# Altium footprint library analog-devices.PCBLIB: 79 footprints (part 5 of 6)
Each footprint in its own frame and in the unit in brackets; x right, y up, seen from the top. Pads: shape width x height; smd on the part's side, far side on the other; paste and mask are expansions set on the pad; w line width, h text height; cw(c..) or ccw(c..) is an arc to the next point about the centre after c.
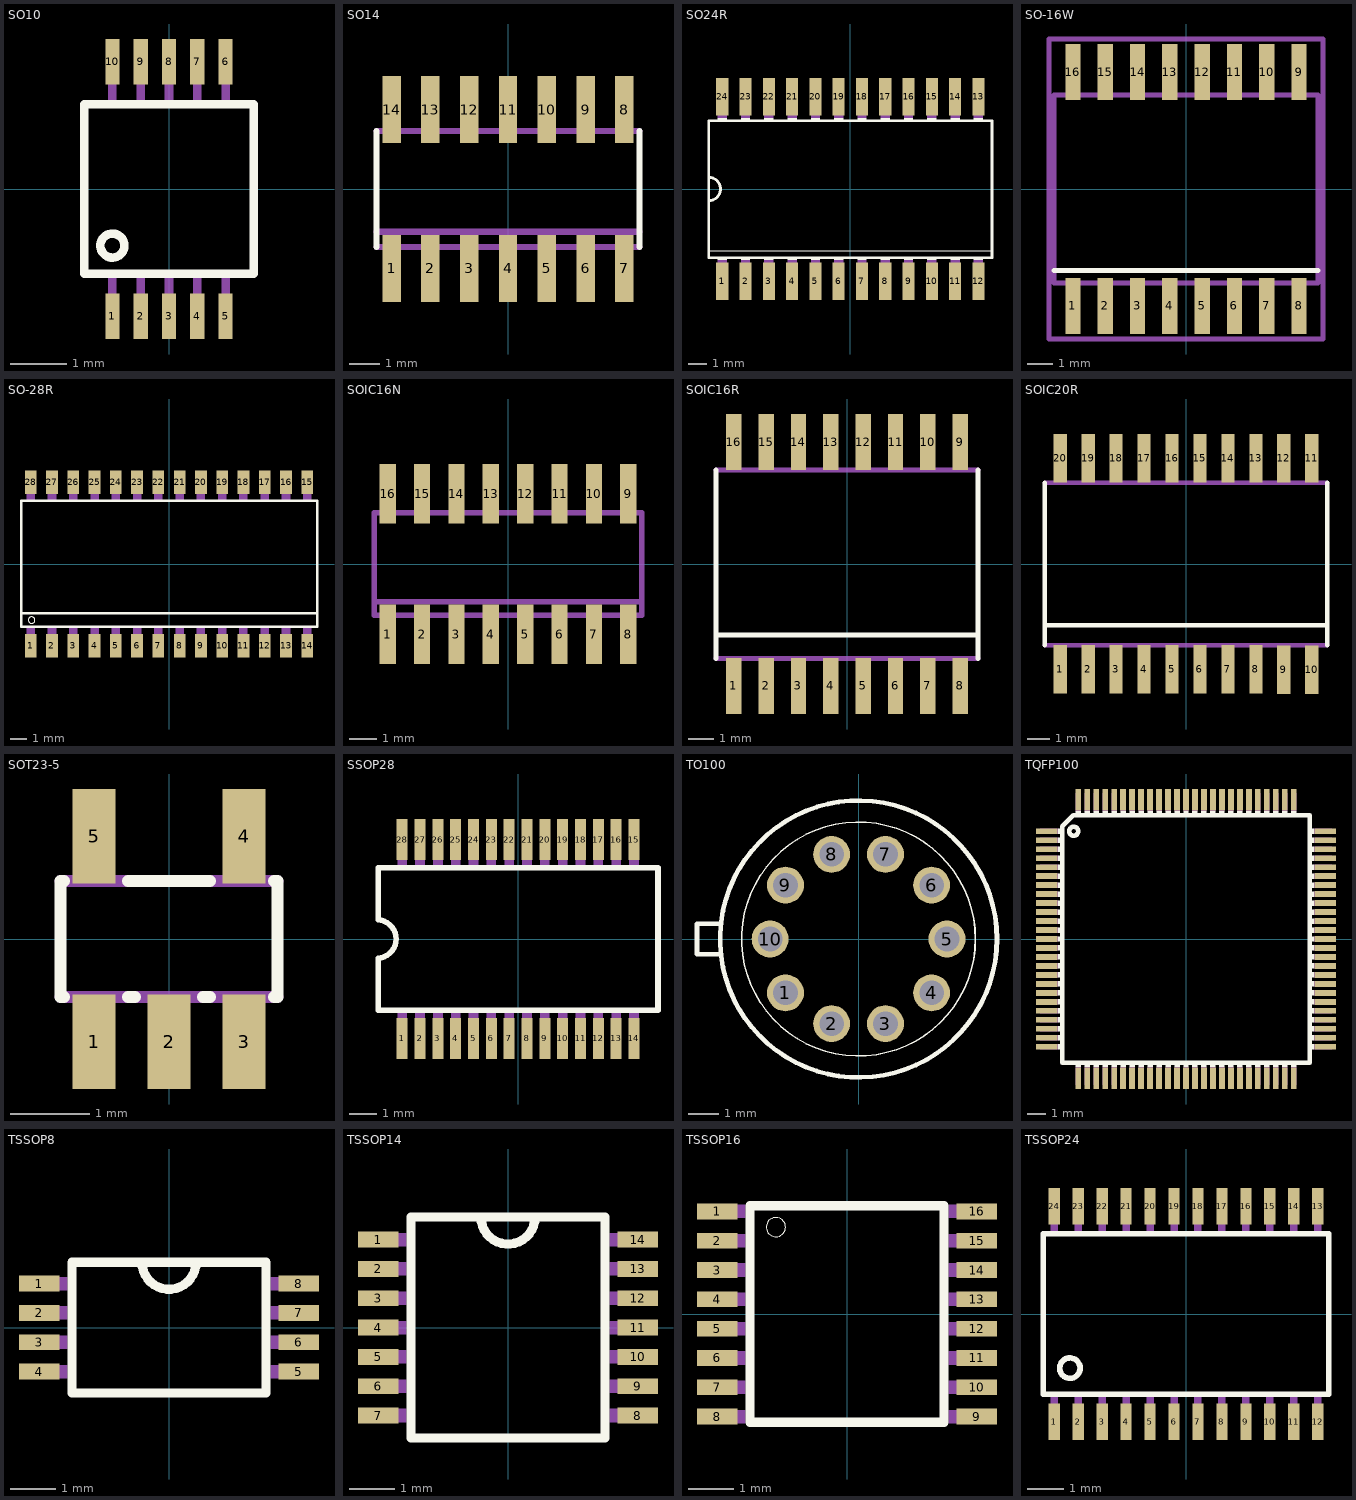
[diagram p4: the footprints below, top view; thin cyan lines are the x and y axes]

## SO10 [mil]
pads (10):
  rect 9.84x31.5 smd: 1(-39.37,-88.58) 2(-19.69,-88.58) 3(0,-88.58) 4(19.69,-88.58) 5(39.37,-88.58) 6(39.37,88.58) 7(19.69,88.58) 8(0,88.58) 9(-19.69,88.58) 10(-39.37,88.58)
Top Overlay:
  circle w6: c-39.37,-39.37 r8.35
  lines w6: -59.06,-59.06 59.06,-59.06 59.06,59.06 -59.06,59.06 -59.06,-59.06
Mechanical 16:
  rectangle: -42.37,-99 -36.37,-60
  rectangle: -22.69,-99 -16.69,-60
  rectangle: -3,-99 3,-60
  rectangle: 16.69,-99 22.69,-60
  rectangle: 36.37,-99 42.37,-60
  rectangle: 36.37,60 42.37,99
  rectangle: 16.69,60 22.69,99
  rectangle: -3,60 3,99
  rectangle: -22.69,60 -16.69,99
  rectangle: -42.37,60 -36.37,99

## SO14 [mm]
pads (14):
  rect 0.6x2.2 smd: 1(-3.81,-2.6) 2(-2.54,-2.6) 3(-1.27,-2.6) 4(0,-2.6) 5(1.27,-2.6) 6(2.54,-2.6) 7(3.81,-2.6) 8(3.81,2.6) 9(2.54,2.6) 10(1.27,2.6) 11(0,2.6) 12(-1.27,2.6) 13(-2.54,2.6) 14(-3.81,2.6)
Top Overlay:
  lines w0.203: -4.305,-1.9 -4.305,-1.4 -4.305,1.9 ; 4.305,-1.9 4.305,-1.4 4.305,1.9
Mechanical 16:
  rectangle: -4.055,-3.1 -3.565,-2
  rectangle: -2.785,-3.1 -2.295,-2
  rectangle: -1.515,-3.1 -1.025,-2
  rectangle: -0.245,-3.1 0.245,-2
  region: 1.515,-2 1.025,-2 1.025,-3.1 1.515,-3.1
  region: 2.785,-2 2.295,-2 2.295,-3.1 2.785,-3.1
  region: 4.055,-2 3.565,-2 3.565,-3.1 4.055,-3.1
  rectangle: 3.565,2 4.055,3.1
  rectangle: 2.295,2 2.785,3.1
  rectangle: 1.025,2 1.515,3.1
  rectangle: -0.245,2 0.245,3.1
  rectangle: -1.515,2 -1.025,3.1
  rectangle: -2.785,2 -2.295,3.1
  rectangle: -4.055,2 -3.565,3.1
  lines w0.203: -4.305,-1.9 4.305,-1.9 ; -4.305,-1.4 4.305,-1.4 ; -4.305,1.9 4.305,1.9

## SO24R [mil]
pads (24):
  rect 26x80 smd: 1(-275,-198) 2(-225,-198) 3(-175,-198) 4(-125,-198) 5(-75,-198) 6(-25,-198) 7(25,-198) 8(75,-198) 9(125,-198) 10(175,-198) 11(225,-198) 12(275,-198) 13(275,198) 14(225,198) 15(175,198) 16(125,198) 17(75,198) 18(25,198) 19(-25,198) 20(-75,198) 21(-125,198) 22(-175,198) 23(-225,198) 24(-275,198)
Top Overlay:
  rectangle: -285,-152 -265,-147
  rectangle: -235,-152 -215,-147
  rectangle: -185,-152 -165,-147
  rectangle: -135,-152 -115,-147
  rectangle: -85,-152 -65,-147
  rectangle: -35,-152 -15,-147
  rectangle: 15,-152 35,-147
  rectangle: 65,-152 85,-147
  rectangle: -285,147 -265,152
  rectangle: -235,147 -215,152
  rectangle: -185,147 -165,152
  rectangle: -135,147 -115,152
  rectangle: -85,147 -65,152
  rectangle: -35,147 -15,152
  rectangle: 15,147 35,152
  rectangle: 65,147 85,152
  rectangle: 115,147 135,152
  rectangle: 165,147 185,152
  rectangle: 215,147 235,152
  rectangle: 265,147 285,152
  rectangle: 115,-152 135,-147
  rectangle: 165,-152 185,-147
  rectangle: 215,-152 235,-147
  rectangle: 265,-152 285,-147
  lines w2: -305,-133 305,-133
  lines w6: -304.13,-25.2 -304.13,25.2 ; -304.13,-25.2 -304.13,-147.64 304.13,-147.64 304.13,146.65 -304.13,146.65 -304.13,25.2 ; -304.13,-25.2 ccw(c-304.13,0) -304.13,25.2
Mechanical 16:
  rectangle: -285,-210 -265,-152
  rectangle: -235,-210 -215,-152
  rectangle: -185,-210 -165,-152
  rectangle: -135,-210 -115,-152
  rectangle: -85,-210 -65,-152
  rectangle: -35,-210 -15,-152
  rectangle: 15,-210 35,-152
  rectangle: 65,-210 85,-152
  rectangle: -285,152 -265,210
  rectangle: -235,152 -215,210
  rectangle: -185,152 -165,210
  rectangle: -135,152 -115,210
  rectangle: -85,152 -65,210
  rectangle: -35,152 -15,210
  rectangle: 15,152 35,210
  rectangle: 65,152 85,210
  rectangle: 115,152 135,210
  rectangle: 165,152 185,210
  rectangle: 215,152 235,210
  rectangle: 265,152 285,210
  rectangle: 115,-210 135,-152
  rectangle: 165,-210 185,-152
  rectangle: 215,-210 235,-152
  rectangle: 265,-210 285,-152

## SO-16W [mm]
pads (16):
  rect 0.6x2.2 smd: 1(-4.445,-4.6) 2(-3.175,-4.6) 3(-1.905,-4.6) 4(-0.635,-4.6) 5(0.635,-4.6) 6(1.905,-4.6) 7(3.175,-4.6) 8(4.445,-4.6) 9(4.445,4.6) 10(3.175,4.6) 11(1.905,4.6) 12(0.635,4.6) 13(-0.635,4.6) 14(-1.905,4.6) 15(-3.175,4.6) 16(-4.445,4.6)
Top Overlay:
  lines w0.203: -5.19,-3.2 5.19,-3.2
Mechanical 16:
  rectangle: -4.69,-5.32 -4.2,-3.8
  rectangle: -3.42,-5.32 -2.93,-3.8
  rectangle: -2.15,-5.32 -1.66,-3.8
  rectangle: -0.88,-5.32 -0.39,-3.8
  rectangle: 0.39,-5.32 0.88,-3.8
  rectangle: 1.66,-5.32 2.15,-3.8
  rectangle: 2.93,-5.32 3.42,-3.8
  rectangle: 4.2,-5.32 4.69,-3.8
  rectangle: 4.2,3.8 4.69,5.32
  rectangle: 2.93,3.8 3.42,5.32
  rectangle: 1.66,3.8 2.15,5.32
  rectangle: 0.39,3.8 0.88,5.32
  rectangle: -0.88,3.8 -0.39,5.32
  rectangle: -2.15,3.8 -1.66,5.32
  rectangle: -3.42,3.8 -2.93,5.32
  rectangle: -4.69,3.8 -4.2,5.32
  lines w0.203: -5.19,-3.7 5.19,-3.7 5.19,3.7 -5.19,3.7 -5.19,-3.7
Mechanical 27:
  lines w0.2: -5.395,-5.9 5.395,-5.9 5.395,5.9 -5.395,5.9 -5.395,-5.9

## SO-28R [mm]
pads (28):
  rect 0.7x1.4 smd: 1(-8.255,-4.88) 2(-6.985,-4.88) 3(-5.715,-4.88) 4(-4.445,-4.88) 5(-3.175,-4.88) 6(-1.905,-4.88) 7(-0.635,-4.88) 8(0.635,-4.88) 9(1.905,-4.88) 10(3.175,-4.88) 11(4.445,-4.88) 12(5.715,-4.88) 13(6.985,-4.88) 14(8.255,-4.88) 15(8.255,4.88) 16(6.985,4.88) 17(5.715,4.88) 18(4.445,4.88) 19(3.175,4.88) 20(1.905,4.88) 21(0.635,4.88) 22(-0.635,4.88) 23(-1.905,4.88) 24(-3.175,4.88) 25(-4.445,4.88) 26(-5.715,4.88) 27(-6.985,4.88) 28(-8.255,4.88)
Top Overlay:
  circle w0: c-8.2,-3.35 r0.2
  lines w0.152: 8.839,-2.94 -8.814,-2.94 ; -8.814,-2.94 -8.814,3.763 8.839,3.763 8.839,-3.74 -8.814,-3.74 -8.814,-2.94
Mechanical 16:
  rectangle: -8.509,-5.29 -8.001,-3.766
  rectangle: -7.239,-5.29 -6.731,-3.766
  rectangle: -5.969,-5.29 -5.461,-3.766
  rectangle: -4.699,-5.29 -4.191,-3.766
  rectangle: -3.429,-5.29 -2.921,-3.766
  rectangle: -2.159,-5.29 -1.651,-3.766
  rectangle: -0.889,-5.29 -0.381,-3.766
  rectangle: 0.381,-5.29 0.889,-3.766
  rectangle: 1.651,-5.29 2.159,-3.766
  rectangle: 2.921,-5.29 3.429,-3.766
  rectangle: 4.191,-5.29 4.699,-3.766
  rectangle: 5.461,-5.29 5.969,-3.766
  rectangle: 6.731,-5.29 7.239,-3.766
  rectangle: 8.001,-5.29 8.509,-3.766
  rectangle: 8.001,3.789 8.509,5.313
  rectangle: 6.731,3.789 7.239,5.313
  rectangle: 5.461,3.789 5.969,5.313
  rectangle: 4.191,3.789 4.699,5.313
  rectangle: 2.921,3.789 3.429,5.313
  rectangle: 1.651,3.789 2.159,5.313
  rectangle: 0.381,3.789 0.889,5.313
  rectangle: -0.889,3.789 -0.381,5.313
  rectangle: -2.159,3.789 -1.651,5.313
  rectangle: -3.429,3.789 -2.921,5.313
  rectangle: -4.699,3.789 -4.191,5.313
  rectangle: -5.969,3.789 -5.461,5.313
  rectangle: -7.239,3.789 -6.731,5.313
  rectangle: -8.509,3.789 -8.001,5.313

## SOIC16N [mm]
pads (16):
  rect 0.6x2.2 smd: 1(-4.445,-2.6) 2(-3.175,-2.6) 3(-1.905,-2.6) 4(-0.635,-2.6) 5(0.635,-2.6) 6(1.905,-2.6) 7(3.175,-2.6) 8(4.445,-2.6) 9(4.445,2.6) 10(3.175,2.6) 11(1.905,2.6) 12(0.635,2.6) 13(-0.635,2.6) 14(-1.905,2.6) 15(-3.175,2.6) 16(-4.445,2.6)
Mechanical 16:
  rectangle: -4.69,-3.1 -4.2,-2
  rectangle: -3.42,-3.1 -2.93,-2
  rectangle: -2.15,-3.1 -1.66,-2
  rectangle: -0.88,-3.1 -0.39,-2
  rectangle: 1.66,2 2.15,3.1
  rectangle: 0.39,2 0.88,3.1
  rectangle: -0.88,2 -0.39,3.1
  rectangle: -2.15,2 -1.66,3.1
  rectangle: 0.39,-3.1 0.88,-2
  rectangle: 1.66,-3.1 2.15,-2
  rectangle: 2.93,-3.1 3.42,-2
  rectangle: 4.2,-3.1 4.69,-2
  rectangle: 4.2,2 4.69,3.1
  rectangle: 2.93,2 3.42,3.1
  rectangle: -3.42,2 -2.93,3.1
  rectangle: -4.69,2 -4.2,3.1
  lines w0.203: -4.94,-1.4 -4.94,-1.9 4.94,-1.9 4.94,-1.4 ; -4.94,-1.4 -4.94,1.9 4.94,1.9 4.94,-1.4 ; -4.94,-1.4 4.94,-1.4

## SOIC16R [mm]
pads (16):
  rect 0.6x2.2 smd: 1(-4.445,-4.775) 2(-3.175,-4.775) 3(-1.905,-4.775) 4(-0.635,-4.775) 5(0.635,-4.775) 6(1.905,-4.775) 7(3.175,-4.775) 8(4.445,-4.775) 9(4.445,4.8) 10(3.175,4.8) 11(1.905,4.8) 12(0.635,4.8) 13(-0.635,4.8) 14(-1.905,4.8) 15(-3.175,4.8) 16(-4.445,4.8)
Top Overlay:
  lines w0.203: -5.14,-3.7 -5.14,-2.775 ; -5.14,3.7 -5.14,-2.775 ; 5.14,-3.7 5.14,-2.775 ; 5.14,3.7 5.14,-2.775 ; -5.14,-2.775 5.14,-2.775
Mechanical 16:
  rectangle: -4.69,-5.275 -4.2,-3.8
  rectangle: -3.42,-5.275 -2.93,-3.8
  rectangle: -2.15,-5.275 -1.66,-3.8
  rectangle: -0.88,-5.275 -0.39,-3.8
  rectangle: 1.66,3.8 2.15,5.3
  rectangle: 0.39,3.8 0.88,5.3
  rectangle: -0.88,3.8 -0.39,5.3
  rectangle: -2.15,3.8 -1.66,5.3
  rectangle: 0.39,-5.275 0.88,-3.8
  rectangle: 1.66,-5.275 2.15,-3.8
  rectangle: 2.93,-5.275 3.42,-3.8
  rectangle: 4.2,-5.275 4.69,-4.175
  rectangle: 4.2,3.8 4.69,5.3
  rectangle: 2.93,3.8 3.42,5.3
  rectangle: -3.42,3.8 -2.93,5.3
  rectangle: -4.69,3.8 -4.2,5.3
  lines w0.203: -5.14,-3.7 5.14,-3.7 ; -5.14,3.7 5.14,3.7

## SOIC20R [mm]
pads (20):
  rect 0.6x2.2 smd: 1(-5.715,-4.775) 2(-4.445,-4.775) 3(-3.175,-4.775) 4(-1.905,-4.775) 5(-0.635,-4.775) 6(0.635,-4.775) 7(1.905,-4.775) 8(3.175,-4.775) 9(4.445,-4.8) 10(5.715,-4.8) 11(5.715,4.8) 12(4.445,4.8) 13(3.175,4.8) 14(1.905,4.8) 15(0.635,4.8) 16(-0.635,4.8) 17(-1.905,4.8) 18(-3.175,4.8) 19(-4.445,4.8) 20(-5.715,4.8)
Top Overlay:
  lines w0.203: -6.41,-3.7 -6.41,-2.775 ; -6.41,3.7 -6.41,-2.775 ; 6.41,-3.7 6.41,-2.775 ; 6.41,3.7 6.41,-2.775 ; -6.41,-2.775 6.41,-2.775
Mechanical 16:
  rectangle: -5.96,-5.275 -5.47,-3.8
  rectangle: -4.69,-5.275 -4.2,-3.8
  rectangle: -3.42,-5.275 -2.93,-3.8
  rectangle: -2.15,-5.275 -1.66,-3.8
  rectangle: 5.47,3.8 5.96,5.3
  rectangle: 4.2,3.8 4.69,5.3
  rectangle: 2.93,3.8 3.42,5.3
  rectangle: 1.66,3.8 2.15,5.3
  rectangle: -0.88,-5.275 -0.39,-3.8
  rectangle: 0.39,-5.275 0.88,-3.8
  rectangle: 1.66,-5.275 2.15,-3.8
  rectangle: 2.93,-5.275 3.42,-4.175
  region: 4.69,-3.8 4.2,-3.8 4.2,-5.3 4.69,-5.3
  region: 5.96,-3.8 5.47,-3.8 5.47,-5.3 5.96,-5.3
  rectangle: 0.39,3.8 0.88,5.3
  rectangle: -0.88,3.8 -0.39,5.3
  rectangle: -2.15,3.8 -1.66,5.3
  rectangle: -3.42,3.8 -2.93,5.3
  rectangle: -4.69,3.8 -4.2,5.3
  rectangle: -5.96,3.8 -5.47,5.3
  lines w0.203: -6.41,-3.7 6.41,-3.7 ; -6.41,3.7 6.41,3.7

## SOT23-5 [mm]
pads (5):
  rect 0.55x1.2 smd: 1(-0.95,-1.3) 2(0,-1.3) 3(0.95,-1.3) 4(0.95,1.3) 5(-0.95,1.3)
Top Overlay:
  lines w0.152: -1.328,-0.735 -1.372,-0.735 -1.372,0.735 -1.328,0.735 ; -0.522,-0.735 -0.428,-0.735 ; -0.522,0.735 0.522,0.735 ; 0.428,-0.735 0.522,-0.735 ; 1.328,-0.735 1.372,-0.735 1.372,0.735 1.328,0.735
Mechanical 16:
  rectangle: -1.2,-1.425 -0.7,-0.775
  rectangle: -0.25,-1.425 0.25,-0.775
  rectangle: 0.7,-1.425 1.2,-0.775
  rectangle: 0.7,0.775 1.2,1.425
  rectangle: -1.2,0.775 -0.7,1.425
  lines w0.152: -1.372,-0.735 1.372,-0.735 ; -1.372,0.735 1.372,0.735

## SSOP28 [mm]
pads (28):
  rect 0.4x1.5 smd: 1(-4.225,-3.625) 2(-3.575,-3.625) 3(-2.925,-3.625) 4(-2.275,-3.625) 5(-1.625,-3.625) 6(-0.975,-3.625) 7(-0.325,-3.625) 8(0.325,-3.625) 9(0.975,-3.625) 10(1.625,-3.625) 11(2.275,-3.625) 12(2.925,-3.625) 13(3.575,-3.625) 14(4.225,-3.625) 15(4.225,3.625) 16(3.575,3.625) 17(2.925,3.625) 18(2.275,3.625) 19(1.625,3.625) 20(0.975,3.625) 21(0.325,3.625) 22(-0.325,3.625) 23(-0.975,3.625) 24(-1.625,3.625) 25(-2.275,3.625) 26(-2.925,3.625) 27(-3.575,3.625) 28(-4.225,3.625)
Top Overlay:
  lines w0.203: -5.1,-2.6 5.1,-2.6 5.1,2.6 -5.1,2.6 -5.1,0.695 cw(c-5.141,0) -5.1,-0.695 -5.1,-2.6
Mechanical 16:
  rectangle: -4.403,-3.937 -4.047,-2.642
  rectangle: -3.753,-3.937 -3.397,-2.642
  rectangle: -3.103,-3.937 -2.747,-2.642
  rectangle: -2.453,-3.937 -2.097,-2.642
  rectangle: -1.803,-3.937 -1.447,-2.642
  rectangle: -1.153,-3.937 -0.797,-2.642
  rectangle: -0.503,-3.937 -0.147,-2.642
  rectangle: 0.147,-3.937 0.503,-2.642
  rectangle: 0.797,-3.937 1.153,-2.642
  rectangle: 1.447,-3.937 1.803,-2.642
  rectangle: 2.097,-3.937 2.453,-2.642
  rectangle: 2.747,-3.937 3.103,-2.642
  rectangle: 3.397,-3.937 3.753,-2.642
  rectangle: 4.047,-3.937 4.403,-2.642
  rectangle: 4.047,2.642 4.403,3.937
  rectangle: 3.397,2.642 3.753,3.937
  rectangle: 2.747,2.642 3.103,3.937
  rectangle: 2.097,2.642 2.453,3.937
  rectangle: 1.447,2.642 1.803,3.937
  rectangle: 0.797,2.642 1.153,3.937
  rectangle: 0.147,2.642 0.503,3.937
  rectangle: -0.503,2.642 -0.147,3.937
  rectangle: -1.153,2.642 -0.797,3.937
  rectangle: -1.803,2.642 -1.447,3.937
  rectangle: -2.453,2.642 -2.097,3.937
  rectangle: -3.103,2.642 -2.747,3.937
  rectangle: -3.753,2.642 -3.397,3.937
  rectangle: -4.403,2.642 -4.047,3.937

## TO100 [mil]
pads (10):
  round 48 hole 32: 1(-95,-70) 2(-35,-110) 3(35,-110) 4(95,-70) 5(115,0) 6(95,70) 7(35,110) 8(-35,110) 9(-95,70) 10(-115,0)
Top Overlay:
  circle w6: c0,0 r180
  circle w2: c0,0 r152
  lines w6: -180,-20 -210,-20 -210,20 -180,20

## TQFP100 [mm]
pads (100):
  rect 1.2x0.32 smd: 1(-7.75,6) 2(-7.75,5.5) 3(-7.75,5) 4(-7.75,4.5) 5(-7.75,4) 6(-7.75,3.5) 7(-7.75,3) 8(-7.75,2.5) 9(-7.75,2) 10(-7.75,1.5) 11(-7.75,1) 12(-7.75,0.5) 13(-7.75,0) 14(-7.75,-0.5) 15(-7.75,-1) 16(-7.75,-1.5) 17(-7.75,-2) 18(-7.75,-2.5) 19(-7.75,-3) 20(-7.75,-3.5) 21(-7.75,-4) 22(-7.75,-4.5) 23(-7.75,-5) 24(-7.75,-5.5) 25(-7.75,-6) 51(7.75,-6) 52(7.75,-5.5) 53(7.75,-5) 54(7.75,-4.5) 55(7.75,-4) 56(7.75,-3.5) 57(7.75,-3) 58(7.75,-2.5) 59(7.75,-2) 60(7.75,-1.5) 61(7.75,-1) 62(7.75,-0.5) 63(7.75,0) 64(7.75,0.5) 65(7.75,1) 66(7.75,1.5) 67(7.75,2) 68(7.75,2.5) 69(7.75,3) 70(7.75,3.5) 71(7.75,4) 72(7.75,4.5) 73(7.75,5) 74(7.75,5.5) 75(7.75,6)
  rect 0.32x1.2 smd: 26(-6,-7.75) 27(-5.5,-7.75) 28(-5,-7.75) 29(-4.5,-7.75) 30(-4,-7.75) 31(-3.5,-7.75) 32(-3,-7.75) 33(-2.5,-7.75) 34(-2,-7.75) 35(-1.5,-7.75) 36(-1,-7.75) 37(-0.5,-7.75) 38(0,-7.75) 39(0.5,-7.75) 40(1,-7.75) 41(1.5,-7.75) 42(2,-7.75) 43(2.5,-7.75) 44(3,-7.75) 45(3.5,-7.75) 46(4,-7.75) 47(4.5,-7.75) 48(5,-7.75) 49(5.5,-7.75) 50(6,-7.75) 76(6,7.75) 77(5.5,7.75) 78(5,7.75) 79(4.5,7.75) 80(4,7.75) 81(3.5,7.75) 82(3,7.75) 83(2.5,7.75) 84(2,7.75) 85(1.5,7.75) 86(1,7.75) 87(0.5,7.75) 88(0,7.75) 89(-0.5,7.75) 90(-1,7.75) 91(-1.5,7.75) 92(-2,7.75) 93(-2.5,7.75) 94(-3,7.75) 95(-3.5,7.75) 96(-4,7.75) 97(-4.5,7.75) 98(-5,7.75) 99(-5.5,7.75) 100(-6,7.75)
Top Overlay:
  circle w0.254: c-6.25,6 r0.25
  rectangle: -7.115,5.848 -6.861,6.152
  rectangle: -7.115,5.348 -6.861,5.653
  rectangle: -7.115,4.848 -6.861,5.152
  rectangle: -7.115,4.348 -6.861,4.653
  rectangle: -7.115,3.848 -6.861,4.152
  rectangle: -7.115,3.348 -6.861,3.653
  rectangle: -7.115,2.848 -6.861,3.152
  rectangle: -7.115,2.348 -6.861,2.653
  rectangle: -7.115,1.848 -6.861,2.152
  rectangle: -7.115,1.348 -6.861,1.653
  rectangle: -7.115,0.848 -6.861,1.152
  rectangle: -7.115,0.348 -6.861,0.653
  rectangle: -7.115,-0.152 -6.861,0.152
  rectangle: -7.115,-0.653 -6.861,-0.348
  rectangle: -7.115,-1.152 -6.861,-0.848
  rectangle: -7.115,-1.653 -6.861,-1.348
  rectangle: -7.115,-2.152 -6.861,-1.848
  rectangle: -7.115,-2.653 -6.861,-2.348
  rectangle: -7.115,-3.152 -6.861,-2.848
  rectangle: -7.115,-3.653 -6.861,-3.348
  rectangle: -7.115,-4.152 -6.861,-3.848
  rectangle: -7.115,-4.653 -6.861,-4.348
  rectangle: -7.115,-5.152 -6.861,-4.848
  rectangle: -7.115,-5.653 -6.861,-5.348
  rectangle: -7.115,-6.152 -6.861,-5.848
  rectangle: -6.152,-7.115 -5.848,-6.861
  rectangle: -5.653,-7.115 -5.348,-6.861
  rectangle: -5.152,-7.115 -4.848,-6.861
  rectangle: -4.653,-7.115 -4.348,-6.861
  rectangle: -4.152,-7.115 -3.848,-6.861
  rectangle: -3.653,-7.115 -3.348,-6.861
  rectangle: -3.152,-7.115 -2.848,-6.861
  rectangle: -2.653,-7.115 -2.348,-6.861
  rectangle: -2.152,-7.115 -1.848,-6.861
  rectangle: -1.653,-7.115 -1.348,-6.861
  rectangle: -1.152,-7.115 -0.848,-6.861
  rectangle: -0.653,-7.115 -0.348,-6.861
  rectangle: -0.152,-7.115 0.152,-6.861
  rectangle: 0.348,-7.115 0.653,-6.861
  rectangle: 0.848,-7.115 1.152,-6.861
  rectangle: 1.348,-7.115 1.653,-6.861
  rectangle: 1.848,-7.115 2.152,-6.861
  rectangle: 2.348,-7.115 2.653,-6.861
  rectangle: 2.848,-7.115 3.152,-6.861
  rectangle: 3.348,-7.115 3.653,-6.861
  rectangle: 3.848,-7.115 4.152,-6.861
  rectangle: 4.348,-7.115 4.653,-6.861
  rectangle: 4.848,-7.115 5.152,-6.861
  rectangle: 5.348,-7.115 5.653,-6.861
  rectangle: 5.848,-7.115 6.152,-6.861
  rectangle: 6.861,-6.152 7.115,-5.848
  rectangle: 6.861,-5.653 7.115,-5.348
  rectangle: 6.861,-5.152 7.115,-4.848
  rectangle: 6.861,-4.653 7.115,-4.348
  rectangle: 6.861,-4.152 7.115,-3.848
  rectangle: 6.861,-3.653 7.115,-3.348
  rectangle: 6.861,-3.152 7.115,-2.848
  rectangle: 6.861,-2.653 7.115,-2.348
  rectangle: 6.861,-2.152 7.115,-1.848
  rectangle: 6.861,-1.653 7.115,-1.348
  rectangle: 6.861,-1.152 7.115,-0.848
  rectangle: 6.861,-0.653 7.115,-0.348
  rectangle: 6.861,-0.152 7.115,0.152
  rectangle: 6.861,0.348 7.115,0.653
  rectangle: 6.861,0.848 7.115,1.152
  rectangle: 6.861,1.348 7.115,1.653
  rectangle: 6.861,1.848 7.115,2.152
  rectangle: 6.861,2.348 7.115,2.653
  rectangle: 6.861,2.848 7.115,3.152
  rectangle: 6.861,3.348 7.115,3.653
  rectangle: 6.861,3.848 7.115,4.152
  rectangle: 6.861,4.348 7.115,4.653
  rectangle: 6.861,4.848 7.115,5.152
  rectangle: 6.861,5.348 7.115,5.653
  rectangle: 6.861,5.848 7.115,6.152
  rectangle: 5.848,6.861 6.152,7.115
  rectangle: 5.348,6.861 5.653,7.115
  rectangle: 4.848,6.861 5.152,7.115
  rectangle: 4.348,6.861 4.653,7.115
  rectangle: 3.848,6.861 4.152,7.115
  rectangle: 3.348,6.861 3.653,7.115
  rectangle: 2.848,6.861 3.152,7.115
  rectangle: 2.348,6.861 2.653,7.115
  rectangle: 1.848,6.861 2.152,7.115
  rectangle: 1.348,6.861 1.653,7.115
  rectangle: 0.848,6.861 1.152,7.115
  rectangle: 0.348,6.861 0.653,7.115
  rectangle: -0.152,6.861 0.152,7.115
  rectangle: -0.653,6.861 -0.348,7.115
  rectangle: -1.152,6.861 -0.848,7.115
  rectangle: -1.653,6.861 -1.348,7.115
  rectangle: -2.152,6.861 -1.848,7.115
  rectangle: -2.653,6.861 -2.348,7.115
  rectangle: -3.152,6.861 -2.848,7.115
  rectangle: -3.653,6.861 -3.348,7.115
  rectangle: -4.152,6.861 -3.848,7.115
  rectangle: -4.653,6.861 -4.348,7.115
  rectangle: -5.152,6.861 -4.848,7.115
  rectangle: -5.653,6.861 -5.348,7.115
  rectangle: -6.152,6.861 -5.848,7.115
  lines w0.254: -6.883,-6.883 6.883,-6.883 6.883,6.883 -6.274,6.883 -6.883,6.274 -6.883,-6.883
Mechanical 13:
  text "Analog Devices TQFP 100" at -6.25,-6.25 h0.94
Mechanical 16:
  rectangle: -8.131,5.848 -7.09,6.152
  rectangle: -8.131,5.348 -7.09,5.653
  rectangle: -8.131,4.848 -7.09,5.152
  rectangle: -8.131,4.348 -7.09,4.653
  rectangle: -8.131,3.848 -7.09,4.152
  rectangle: -8.131,3.348 -7.09,3.653
  rectangle: -8.131,2.848 -7.09,3.152
  rectangle: -8.131,2.348 -7.09,2.653
  rectangle: -8.131,1.848 -7.09,2.152
  rectangle: -8.131,1.348 -7.09,1.653
  rectangle: -8.131,0.848 -7.09,1.152
  rectangle: -8.131,0.348 -7.09,0.653
  rectangle: -8.131,-0.152 -7.09,0.152
  rectangle: -8.131,-0.653 -7.09,-0.348
  rectangle: -8.131,-1.152 -7.09,-0.848
  rectangle: -8.131,-1.653 -7.09,-1.348
  rectangle: -8.131,-2.152 -7.09,-1.848
  rectangle: -8.131,-2.653 -7.09,-2.348
  rectangle: -8.131,-3.152 -7.09,-2.848
  rectangle: -8.131,-3.653 -7.09,-3.348
  rectangle: -8.131,-4.152 -7.09,-3.848
  rectangle: -8.131,-4.653 -7.09,-4.348
  rectangle: -8.131,-5.152 -7.09,-4.848
  rectangle: -8.131,-5.653 -7.09,-5.348
  rectangle: -8.131,-6.152 -7.09,-5.848
  rectangle: -6.152,-8.131 -5.848,-7.09
  rectangle: -5.653,-8.131 -5.348,-7.09
  rectangle: -5.152,-8.131 -4.848,-7.09
  rectangle: -4.653,-8.131 -4.348,-7.09
  rectangle: -4.152,-8.131 -3.848,-7.09
  rectangle: -3.653,-8.131 -3.348,-7.09
  rectangle: -3.152,-8.131 -2.848,-7.09
  rectangle: -2.653,-8.131 -2.348,-7.09
  rectangle: -2.152,-8.131 -1.848,-7.09
  rectangle: -1.653,-8.131 -1.348,-7.09
  rectangle: -1.152,-8.131 -0.848,-7.09
  rectangle: -0.653,-8.131 -0.348,-7.09
  rectangle: -0.152,-8.131 0.152,-7.09
  rectangle: 0.348,-8.131 0.653,-7.09
  rectangle: 0.848,-8.131 1.152,-7.09
  rectangle: 1.348,-8.131 1.653,-7.09
  rectangle: 1.848,-8.131 2.152,-7.09
  rectangle: 2.348,-8.131 2.653,-7.09
  rectangle: 2.848,-8.131 3.152,-7.09
  rectangle: 3.348,-8.131 3.653,-7.09
  rectangle: 3.848,-8.131 4.152,-7.09
  rectangle: 4.348,-8.131 4.653,-7.09
  rectangle: 4.848,-8.131 5.152,-7.09
  rectangle: 5.348,-8.131 5.653,-7.09
  rectangle: 5.848,-8.131 6.152,-7.09
  rectangle: 7.09,-6.152 8.131,-5.848
  rectangle: 7.09,-5.653 8.131,-5.348
  rectangle: 7.09,-5.152 8.131,-4.848
  rectangle: 7.09,-4.653 8.131,-4.348
  rectangle: 7.09,-4.152 8.131,-3.848
  rectangle: 7.09,-3.653 8.131,-3.348
  rectangle: 7.09,-3.152 8.131,-2.848
  rectangle: 7.09,-2.653 8.131,-2.348
  rectangle: 7.09,-2.152 8.131,-1.848
  rectangle: 7.09,-1.653 8.131,-1.348
  rectangle: 7.09,-1.152 8.131,-0.848
  rectangle: 7.09,-0.653 8.131,-0.348
  rectangle: 7.09,-0.152 8.131,0.152
  rectangle: 7.09,0.348 8.131,0.653
  rectangle: 7.09,0.848 8.131,1.152
  rectangle: 7.09,1.348 8.131,1.653
  rectangle: 7.09,1.848 8.131,2.152
  rectangle: 7.09,2.348 8.131,2.653
  rectangle: 7.09,2.848 8.131,3.152
  rectangle: 7.09,3.348 8.131,3.653
  rectangle: 7.09,3.848 8.131,4.152
  rectangle: 7.09,4.348 8.131,4.653
  rectangle: 7.09,4.848 8.131,5.152
  rectangle: 7.09,5.348 8.131,5.653
  rectangle: 7.09,5.848 8.131,6.152
  rectangle: 5.848,7.09 6.152,8.131
  rectangle: 5.348,7.09 5.653,8.131
  rectangle: 4.848,7.09 5.152,8.131
  rectangle: 4.348,7.09 4.653,8.131
  rectangle: 3.848,7.09 4.152,8.131
  rectangle: 3.348,7.09 3.653,8.131
  rectangle: 2.848,7.09 3.152,8.131
  rectangle: 2.348,7.09 2.653,8.131
  rectangle: 1.848,7.09 2.152,8.131
  rectangle: 1.348,7.09 1.653,8.131
  rectangle: 0.848,7.09 1.152,8.131
  rectangle: 0.348,7.09 0.653,8.131
  rectangle: -0.152,7.09 0.152,8.131
  rectangle: -0.653,7.09 -0.348,8.131
  rectangle: -1.152,7.09 -0.848,8.131
  rectangle: -1.653,7.09 -1.348,8.131
  rectangle: -2.152,7.09 -1.848,8.131
  rectangle: -2.653,7.09 -2.348,8.131
  rectangle: -3.152,7.09 -2.848,8.131
  rectangle: -3.653,7.09 -3.348,8.131
  rectangle: -4.152,7.09 -3.848,8.131
  rectangle: -4.653,7.09 -4.348,8.131
  rectangle: -5.152,7.09 -4.848,8.131
  rectangle: -5.653,7.09 -5.348,8.131
  rectangle: -6.152,7.09 -5.848,8.131

## TSSOP8 [mm]
pads (8):
  rect 0.9x0.35 smd: 1(-2.875,0.975) 2(-2.875,0.325) 3(-2.875,-0.325) 4(-2.875,-0.975) 5(2.875,-0.975) 6(2.875,-0.325) 7(2.875,0.325) 8(2.875,0.975)
Top Overlay:
  lines w0.203: -0.6,1.448 ccw(c0,1.448) 0.6,1.448 ; -2.148,-1.448 2.148,-1.448 2.148,1.448 -2.148,1.448 -2.148,-1.448
Mechanical 16:
  rectangle: -3.2,0.825 -2.25,1.125
  rectangle: -3.2,0.175 -2.25,0.475
  rectangle: -3.2,-0.475 -2.25,-0.175
  rectangle: -3.2,-1.125 -2.25,-0.825
  region: 3.2,-0.825 2.25,-0.825 2.25,-1.125 3.2,-1.125
  region: 3.2,-0.175 2.25,-0.175 2.25,-0.475 3.2,-0.475
  region: 3.2,0.475 2.25,0.475 2.25,0.175 3.2,0.175
  rectangle: 2.25,0.825 3.2,1.125

## TSSOP14 [mm]
pads (14):
  rect 0.9x0.35 smd: 1(-2.875,1.95) 2(-2.875,1.3) 3(-2.875,0.65) 4(-2.875,0) 5(-2.875,-0.65) 6(-2.875,-1.3) 7(-2.875,-1.95) 8(2.875,-1.95) 9(2.875,-1.3) 10(2.875,-0.65) 11(2.875,0) 12(2.875,0.65) 13(2.875,1.3) 14(2.875,1.95)
Top Overlay:
  lines w0.203: -0.6,2.448 ccw(c0,2.448) 0.6,2.448 ; -2.148,-2.448 2.148,-2.448 2.148,2.448 -2.148,2.448 -2.148,-2.448
Mechanical 16:
  rectangle: -3.2,1.8 -2.25,2.1
  rectangle: -3.2,1.15 -2.25,1.45
  rectangle: -3.2,0.5 -2.25,0.8
  rectangle: -3.2,-0.15 -2.25,0.15
  rectangle: -3.2,-0.8 -2.25,-0.5
  rectangle: -3.2,-1.45 -2.25,-1.15
  rectangle: -3.2,-2.1 -2.25,-1.8
  rectangle: 2.25,-2.1 3.2,-1.8
  rectangle: 2.25,-1.45 3.2,-1.15
  rectangle: 2.25,-0.8 3.2,-0.5
  rectangle: 2.25,-0.15 3.2,0.15
  rectangle: 2.25,0.5 3.2,0.8
  rectangle: 2.25,1.15 3.2,1.45
  rectangle: 2.25,1.8 3.2,2.1

## TSSOP16 [mm]
pads (16):
  rect 0.9x0.35 smd: 1(-2.875,2.275) 2(-2.875,1.625) 3(-2.875,0.975) 4(-2.875,0.325) 5(-2.875,-0.325) 6(-2.875,-0.975) 7(-2.875,-1.625) 8(-2.875,-2.275) 9(2.875,-2.275) 10(2.875,-1.625) 11(2.875,-0.975) 12(2.875,-0.325) 13(2.875,0.325) 14(2.875,0.975) 15(2.875,1.625) 16(2.875,2.275)
Top Overlay:
  circle w0: c-1.575,1.925 r0.214
  lines w0.203: -2.148,-2.399 2.148,-2.399 2.148,2.399 -2.148,2.399 -2.148,-2.399
Mechanical 16:
  rectangle: -3.2,2.125 -2.25,2.425
  rectangle: -3.2,1.475 -2.25,1.775
  rectangle: -3.2,0.825 -2.25,1.125
  rectangle: -3.2,0.175 -2.25,0.475
  rectangle: -3.2,-0.475 -2.25,-0.175
  rectangle: -3.2,-1.125 -2.25,-0.825
  rectangle: -3.2,-1.775 -2.25,-1.475
  rectangle: -3.2,-2.425 -2.25,-2.125
  region: 3.2,-2.125 2.25,-2.125 2.25,-2.425 3.2,-2.425
  region: 3.2,-1.475 2.25,-1.475 2.25,-1.775 3.2,-1.775
  region: 3.2,-0.825 2.25,-0.825 2.25,-1.125 3.2,-1.125
  region: 3.2,-0.175 2.25,-0.175 2.25,-0.475 3.2,-0.475
  region: 3.2,0.475 2.25,0.475 2.25,0.175 3.2,0.175
  region: 3.2,1.125 2.25,1.125 2.25,0.825 3.2,0.825
  region: 3.2,1.775 2.25,1.775 2.25,1.475 3.2,1.475
  region: 3.2,2.425 2.25,2.425 2.25,2.125 3.2,2.125

## TSSOP24 [mil]
pads (24):
  rect 12x39 smd: 1(-140.75,-114.87) 2(-115.16,-114.87) 3(-89.57,-114.87) 4(-63.98,-114.87) 5(-38.39,-114.87) 6(-12.8,-114.87) 7(12.8,-114.87) 8(38.39,-114.87) 9(63.98,-114.87) 10(89.57,-114.87) 11(115.16,-114.87) 12(140.75,-114.87) 13(140.75,114.87) 14(115.16,114.87) 15(89.57,114.87) 16(63.98,114.87) 17(38.39,114.87) 18(12.8,114.87) 19(-12.8,114.87) 20(-38.39,114.87) 21(-63.98,114.87) 22(-89.57,114.87) 23(-115.16,114.87) 24(-140.75,114.87)
Top Overlay:
  circle w6: c-124.04,-57.84 r10.92
  lines w6: -152.56,-85.63 152.56,-85.63 152.56,85.63 -152.56,85.63 -152.56,-85.63
Mechanical 16:
  rectangle: -144.75,-122.87 -136.75,-88.58
  rectangle: -119.16,-122.87 -111.16,-88.58
  rectangle: -93.57,-122.87 -85.57,-88.58
  rectangle: -67.98,-122.87 -59.98,-88.58
  rectangle: -42.39,-122.87 -34.39,-88.58
  rectangle: -16.8,-122.87 -8.8,-88.58
  rectangle: 8.8,-122.87 16.8,-88.58
  rectangle: 34.39,-122.87 42.39,-88.58
  rectangle: 59.98,-122.87 67.98,-88.58
  rectangle: 85.57,-122.87 93.57,-88.58
  rectangle: 111.16,-122.87 119.16,-88.58
  rectangle: 136.75,-122.87 144.75,-88.58
  rectangle: 136.75,88.58 144.75,122.87
  rectangle: 111.16,88.58 119.16,122.87
  rectangle: 85.57,88.58 93.57,122.87
  rectangle: 59.98,88.58 67.98,122.87
  rectangle: 34.39,88.58 42.39,122.87
  rectangle: 8.8,88.58 16.8,122.87
  rectangle: -16.8,88.58 -8.8,122.87
  rectangle: -42.39,88.58 -34.39,122.87
  rectangle: -67.98,88.58 -59.98,122.87
  rectangle: -93.57,88.58 -85.57,122.87
  rectangle: -119.16,88.58 -111.16,122.87
  rectangle: -144.75,88.58 -136.75,122.87